# EAGLE library part 61303221821 (library Wurth_Elektronik_Electromechanic_Board_to_Board_Connectors_rev16a)
WR-PHD 2.54mm Dual Socket Header, 32 Pins =>Code : Con_BTB_SHD_2.54_2_61303221821 <http://katalog.we-online.de/media/images/eican/Con_BTB_SHD_2.54_2_6130xx21821_pf2.jpg> Details see: http://katalog.we-online.de/en/em/613_0xx_218_21 Created 2014-05-29, Karrer Zheng 2014 (C) Würth Elektronik
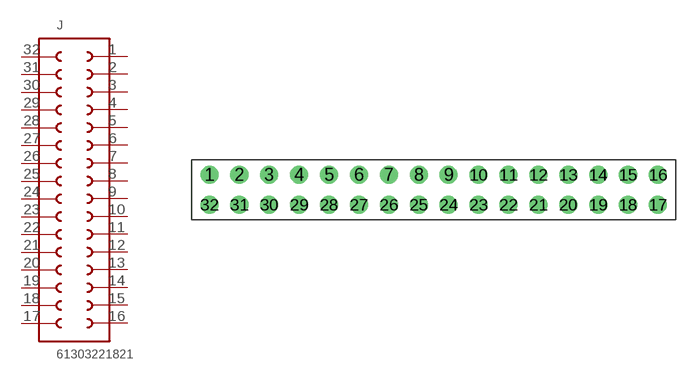
[diagram p122: symbol with the pads of 61303221821; footprint 61303221821]

Designator prefix J

## 61303221821  [61303221821]
1  1  pas
2  2  pas
3  3  pas
4  4  pas
5  5  pas
6  6  pas
7  7  pas
8  8  pas
9  9  pas
10  10  pas
11  11  pas
12  12  pas
13  13  pas
14  14  pas
15  15  pas
16  16  pas
17  17  pas
18  18  pas
19  19  pas
20  20  pas
21  21  pas
22  22  pas
23  23  pas
24  24  pas
25  25  pas
26  26  pas
27  27  pas
28  28  pas
29  29  pas
30  30  pas
31  31  pas
32  32  pas

## Footprint 61303221821 (pad centres in mm)
WR-PHD 2.54mm Dual Socket Header, 32 Pins
drill 1.02: 1 -19.05,1.27; 2 -16.51,1.27; 3 -13.97,1.27; 4 -11.43,1.27; 5 -8.89,1.27; 6 -6.35,1.27; 7 -3.81,1.27; 8 -1.27,1.27; 9 1.27,1.27; 10 3.81,1.27; 11 6.35,1.27; 12 8.89,1.27; 13 11.43,1.27; 14 13.97,1.27; 15 16.51,1.27; 16 19.05,1.27; 17 19.05,-1.27; 18 16.51,-1.27; 19 13.97,-1.27; 20 11.43,-1.27; 21 8.89,-1.27; 22 6.35,-1.27; 23 3.81,-1.27; 24 1.27,-1.27; 25 -1.27,-1.27; 26 -3.81,-1.27; 27 -6.35,-1.27; 28 -8.89,-1.27; 29 -11.43,-1.27; 30 -13.97,-1.27; 31 -16.51,-1.27; 32 -19.05,-1.27